# EAGLE library part ATSAMD21G18A-MU (library Micromouse 2020)
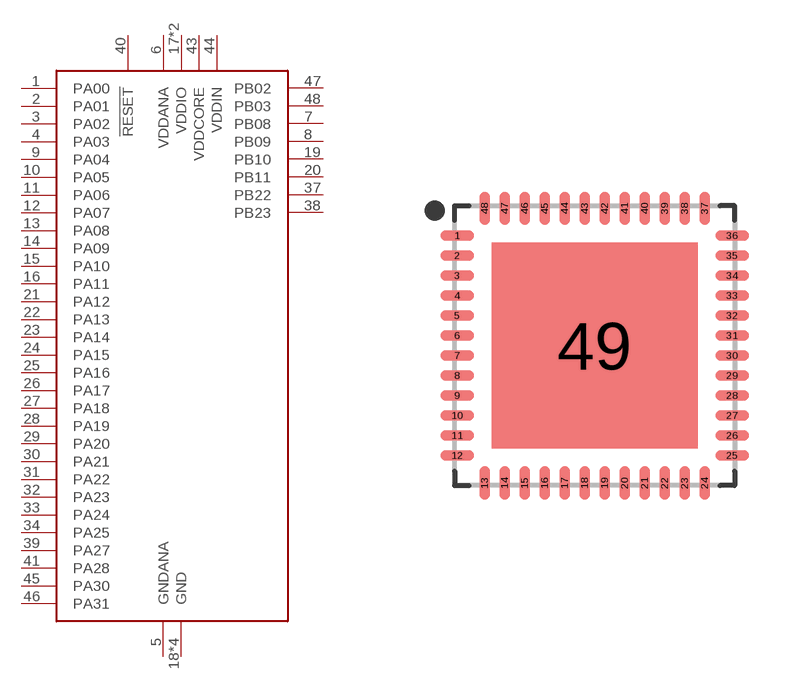
[diagram p1: symbol with the pads of ATSAMD21G18A-MU; footprint ATSAMD21G18A-MU]

Designator prefix U

## ATSAMD21G18A-MU  [ATSAMD21G18A-MU]
1  PA00
2  PA01
3  PA02
4  PA03
5  GNDANA  pas
6  VDDANA  pwr
7  PB08
8  PB09
9  PA04
10  PA05
11  PA06
12  PA07
13  PA08
14  PA09
15  PA10
16  PA11
17  VDDIO  pwr
18  GND  pas
19  PB10
20  PB11
21  PA12
22  PA13
23  PA14
24  PA15
25  PA16
26  PA17
27  PA18
28  PA19
29  PA20
30  PA21
31  PA22
32  PA23
33  PA24
34  PA25
35  GND  pas
36  VDDIO  pwr
37  PB22
38  PB23
39  PA27
40  !RESET  in
41  PA28
42  GND  pas
43  VDDCORE  pwr
44  VDDIN  pwr
45  PA30
46  PA31
47  PB02
48  PB03
49  GND  pas

## Footprint ATSAMD21G18A-MU (pad centres in mm)
48-QFN, 0.50 mm pitch, 7.00 X 7.00 X 0.90 mm body, 5.15 X 5.15 mm thermal pad 48-pin QFN package with 0.50 mm pitch with body size 7.00 X 7.00 X 0.90 mm and thermal pad size 5.15 X 5.15 mm
smd 0.837 x 0.264: 1 -3.437,2.75; 2 -3.437,2.25; 3 -3.437,1.75; 4 -3.437,1.25; 5 -3.437,0.75; 6 -3.437,0.25; 7 -3.437,-0.25; 8 -3.437,-0.75; 9 -3.437,-1.25; 10 -3.437,-1.75; 11 -3.437,-2.25; 12 -3.437,-2.75; 25 3.437,-2.75; 26 3.437,-2.25; 27 3.437,-1.75; 28 3.437,-1.25; 29 3.437,-0.75; 30 3.437,-0.25; 31 3.437,0.25; 32 3.437,0.75; 33 3.437,1.25; 34 3.437,1.75; 35 3.437,2.25; 36 3.437,2.75
smd 0.264 x 0.837: 13 -2.75,-3.437; 14 -2.25,-3.437; 15 -1.75,-3.437; 16 -1.25,-3.437; 17 -0.75,-3.437; 18 -0.25,-3.437; 19 0.25,-3.437; 20 0.75,-3.437; 21 1.25,-3.437; 22 1.75,-3.437; 23 2.25,-3.437; 24 2.75,-3.437; 37 2.75,3.437; 38 2.25,3.437; 39 1.75,3.437; 40 1.25,3.437; 41 0.75,3.437; 42 0.25,3.437; 43 -0.25,3.437; 44 -0.75,3.437; 45 -1.25,3.437; 46 -1.75,3.437; 47 -2.25,3.437; 48 -2.75,3.437
smd 5.15 x 5.15: 49 0,0